# Altium footprint library 20180616.PcbLib: 4 footprints
Each footprint in its own frame and in the unit in brackets; x right, y up, seen from the top. Pads: shape width x height; smd on the part's side, far side on the other; paste and mask are expansions set on the pad; w line width, h text height; cw(c..) or ccw(c..) is an arc to the next point about the centre after c.
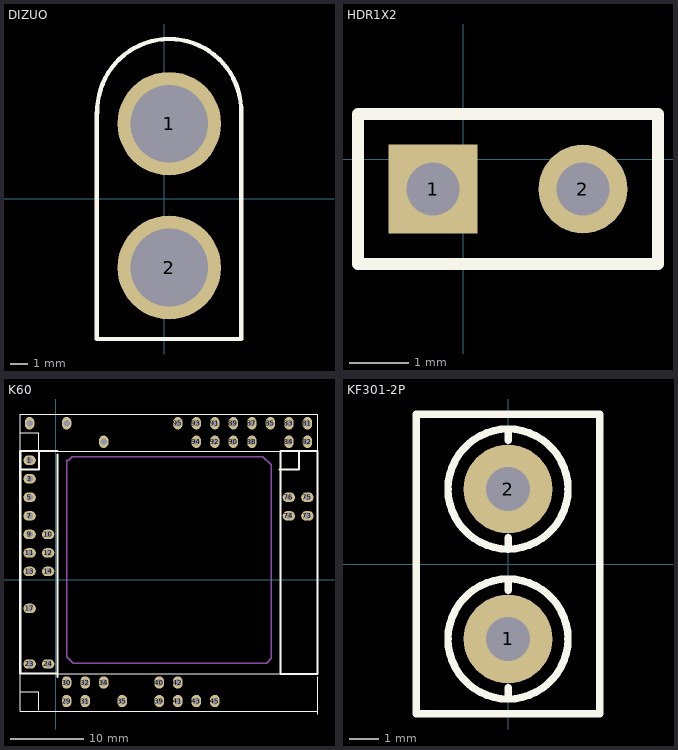
[diagram p0: the footprints below, top view; thin cyan lines are the x and y axes]

## DIZUO [mm]
pads (2):
  round 6 hole 4.5: 1(0.279,4.343) 2(0.279,-3.988)
Top Overlay:
  lines w0.254: -3.912,5.004 -3.912,-8.128 4.445,-8.128 4.445,5.004 ; -3.883,4.953 cw(c0.281,5.079) 4.445,4.953

## HDR1X2 [mm]
pads (2):
  rect 1.5x1.5 hole 0.9: 1(-0.508,-0.508)
  round 1.5 hole 0.9: 2(2.032,-0.508)
Top Overlay:
  lines w0.2: -1.778,-1.778 3.302,-1.778 3.302,0.762 -1.778,0.762 -1.778,-1.778

## K60 [mm]
pads (46):
  oval 1.7x1.3 / inner round 1.524 / far side round 1.524 hole 0.9: 1(-3.556,16.383) 3(-3.556,13.843) 5(-3.556,11.303) 7(-3.556,8.763) 9(-3.556,6.223) 10(-1.016,6.223) 11(-3.556,3.683) 12(-1.016,3.683) 13(-3.556,1.143) 14(-1.016,1.143) 17(-3.556,-3.937) 23(-3.556,-11.557) 24(-1.016,-11.557) 73(34.544,8.763) 74(32.004,8.763) 75(34.544,11.303) 76(32.004,11.303)
  oval 1.3x1.7 / inner round 1.524 / far side round 1.524 hole 0.9: 29(1.524,-16.637) 30(1.524,-14.097) 31(4.064,-16.637) 32(4.064,-14.097) 34(6.604,-14.097) 35(9.144,-16.637) 39(14.224,-16.637) 40(14.224,-14.097) 41(16.764,-16.637) 42(16.764,-14.097) 43(19.304,-16.637) 45(21.844,-16.637) 81(34.544,21.463) 82(34.544,18.923) 83(32.004,21.463) 84(32.004,18.923) 85(29.464,21.463) 87(26.924,21.463) 88(26.924,18.923) 89(24.384,21.463) 90(24.384,18.923) 91(21.844,21.463) 92(21.844,18.923) 93(19.304,21.463) 94(19.304,18.923) 95(16.764,21.463) 104(6.604,18.923) 107(1.524,21.463) 111(-3.556,21.463)
Top Overlay:
  lines w0.15: -4.868,-18.065 -4.868,-12.985 ; -4.829,-18.014 35.938,-18.014 ; -4.826,-15.367 -2.286,-15.367 -2.286,-17.907 ; -4.826,-12.923 35.941,-12.923 ; -4.826,20.193 -2.286,20.193 -2.286,17.653 ; 35.941,-13.798 35.992,-13.798 ; 35.941,-13.439 35.992,-13.439 ; 35.992,-18.415 35.992,-13.335 ; -4.826,17.653 35.941,17.653 35.992,17.653 35.992,22.733 35.941,22.733 -4.826,22.733 -4.826,17.653
  lines w0.305: -4.826,-12.858 0.254,-12.858 ; -4.826,-12.827 -4.826,17.653 0.254,17.653 ; -4.826,15.113 -2.286,15.113 -2.286,17.653 ; 0.254,-13.335 0.254,17.145 ; 30.734,15.113 33.274,15.113 ; 30.861,-12.931 35.941,-12.931 ; 30.861,-12.827 30.861,17.653 35.941,17.653 35.941,-12.827 ; 33.401,15.113 33.401,17.653
Mechanical 15:
  lines w0.2: 1.524,16.383 1.778,16.383 ; 1.524,16.383 1.778,16.383 ; 1.524,16.383 1.524,-10.541 2.413,-11.43 28.956,-11.43 29.591,-10.795 29.591,15.748 28.448,16.891 2.286,16.891 1.778,16.383

## KF301-2P [mm]
pads (2):
  round 3 hole 1.5: 1(0,-2.54) 2(0,2.54)
Top Overlay:
  circle w0.254: c0,2.54 r2.032
  circle w0.254: c0,-2.54 r2.032
  lines w0.254: 0,-4.572 0,-4.191 ; 0,-0.889 0,-0.508 ; 0,0.508 0,0.889 ; 0,4.191 0,4.572 ; -3.1,-5.08 -3.1,5.08 3.1,5.08 3.1,-5.08 -3.1,-5.08